# Altium footprint library ENC_ROTARY_20PPR_TH.PcbLib: 1 footprints
Each footprint in its own frame and in the unit in brackets; x right, y up, seen from the top. Pads: shape width x height; smd on the part's side, far side on the other; paste and mask are expansions set on the pad; w line width, h text height; cw(c..) or ccw(c..) is an arc to the next point about the centre after c.
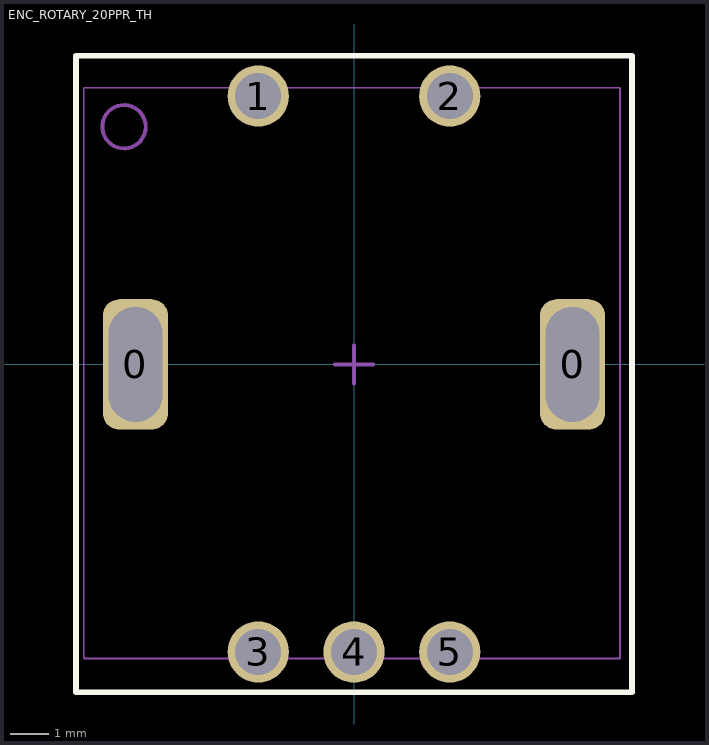
[diagram p0: the footprint, top view; thin cyan lines are the x and y axes]

## ENC_ROTARY_20PPR_TH [mm]
pads (7):
  rrect50% 1.7x3.4 hole 1.4 slot 3 at 90 deg: 0(-5.7,0) 0(5.7,0)
  round 1.6 hole 1.2: 1(-2.5,7) 2(2.5,7) 3(-2.5,-7.5) 4(0,-7.5) 5(2.5,-7.5)
Top Overlay:
  lines w0.15: -7.25,-8.55 7.25,-8.55 7.25,8.05 -7.25,8.05 -7.25,-8.55
Top Assembly:
  circle w0.1: c-6,6.2 r0.566
  lines w0.05: -7.05,-7.669 6.937,-7.669 6.937,7.217 -7.05,7.217 -7.05,-7.669
  text ".designator" at -1.513,0 h0.64
Top Courtyard:
  lines w0.05: -7.25,-8.55 7.25,-8.55 7.25,8.05 -7.25,8.05 -7.25,-8.55
  lines w0.1: -0.5,0 0.5,0 ; 0,-0.5 0,0.5
3D body "ENC_ROTARY_20PPR_TH_ERIC.STEP": height 29.49, standoff -3.55, extent -7.05,-7.669 6.937,7.217